# EAGLE library part SS-51000-004 (library SamacSys_Parts)
Modular Connectors / Ethernet Connectors RJ45 Connector Source: Datasheet <https://componentsearchengine.com/Datasheets/1/SS-51000-004.pdf>
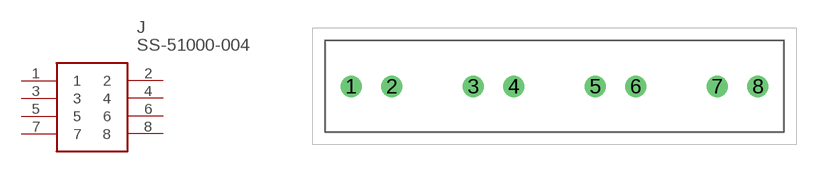
[diagram p0: symbol with the pads of SS51000004; footprint SS51000004]

Designator prefix J

## SS-51000-004 (Description: Modular Connectors / Ethernet Connectors RJ45 Connector; Height: 12mm; Manufacturer_Name: Bel-Stewart; Manufacturer_Part_Number: SS-51000-004; Mouser_Part_Number: 530-SS-51000-004; Mouser_Price-Stock: https://www.mouser.com/Search/Refine.aspx?Keyword=530-SS-51000-004)  [SS51000004]
1  1
2  2
3  3
4  4
5  5
6  6
7  7
8  8

## Footprint SS51000004 (pad centres in mm)
SS-51000-004
drill 1.15 pad 1.725: 1 -16.5,-0.005; 2 -13.2,-0.005; 3 -6.6,-0.005; 4 -3.3,-0.005; 5 3.3,-0.005; 6 6.6,-0.005; 7 13.2,-0.005; 8 16.5,-0.005